# Altium footprint library Varistor.PcbLib: 3 footprints
Each footprint in its own frame and in the unit in brackets; x right, y up, seen from the top. Pads: shape width x height; smd on the part's side, far side on the other; paste and mask are expansions set on the pad; w line width, h text height; cw(c..) or ccw(c..) is an arc to the next point about the centre after c.
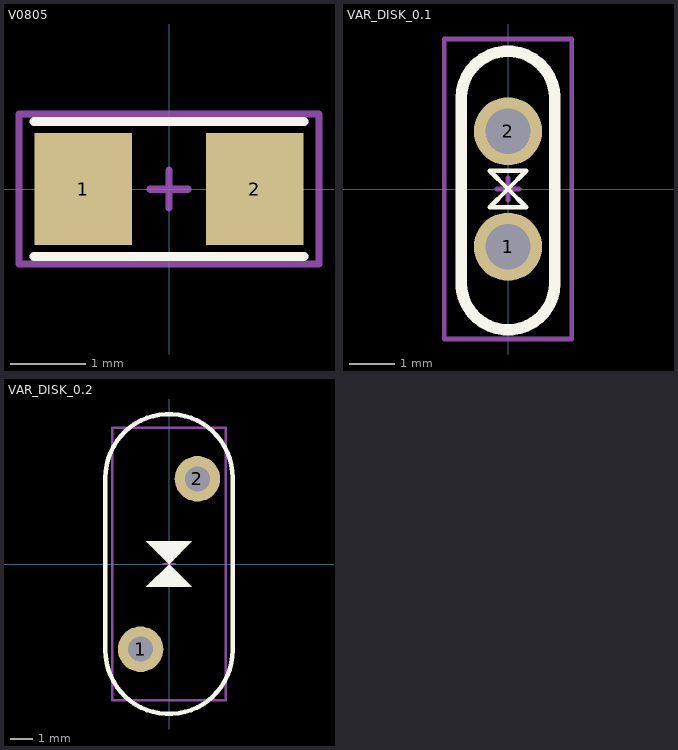
[diagram p0: the footprints below, top view; thin cyan lines are the x and y axes]

## V0805 [mm]
height 1.1
pads (2):
  rect 1.3x1.5 smd: 1(-1.143,0) 2(1.143,0)
Top Overlay:
  lines w0.12: -1.8,-0.9 1.8,-0.9 ; -1.8,0.9 1.8,0.9
Mechanical 15:
  lines w0.1: -0.25,0 0.25,0 ; 0,-0.25 0,0.25 ; -2,-1 2,-1 2,1 -2,1 -2,-1
3D body "User Library-V0805HD.STEP": height 1.24, standoff -0.01, extent -1,-0.6 1,0.6

## VAR_DISK_0.1 [mm] "Varistor PTH"
pads (2):
  round 1.5 hole 1 mask+0.127: 1(0,-1.27) 2(0,1.27)
Top Overlay:
  lines w0.1: 0,0 0.4,-0.4 -0.4,-0.4 0,0 ; 0,0 0.4,0.4 -0.4,0.4 0,0
  lines w0.254: -1.03,-2.17 -1.03,1.97 ; -1.03,-2.07 ccw(c0,-2.07) 1.03,-2.07 ; -1.03,2 cw(c0,2) 1.03,2 ; 1.03,-2.1 1.03,2.07
Mechanical 15:
  lines w0.1: -0.25,0 0.25,0 ; 0,-0.25 0,0.25 ; -1.4,-3.3 -1.4,3.3 1.4,3.3 1.4,-3.3 -1.4,-3.3
3D body "User Library-Cap 100n.step": height 6.22, standoff -1.7, extent -0.838,-2.919 0.858,2.919

## VAR_DISK_0.2 [mm] "Varistor PTH"
pads (2):
  round 2 hole 1.1 mask+0.127: 1(-1.25,-3.75) 2(1.25,3.75)
Top Overlay:
  region: 0,0 -1,-1 1,-1
  region: 0,0 1,1 -1,1
  lines w0.2: -2.8,-3.8 ccw(c0,-3.8) 2.8,-3.8 2.8,3.8 ccw(c0,3.8) -2.8,3.8 -2.8,-3.8
Mechanical 15:
  lines w0.1: -0.25,0 0.25,0 ; 0,-0.25 0,0.25 ; -2.5,-6 -2.5,6 2.5,6 2.5,-6 -2.5,-6
3D body "User Library-Varistor 10mm.SLDPRT": height 16.25, standoff -2.75, extent -2.8,-6.245 2.8,6.245